# EAGLE library part VS1010-68 (library vlsi-web-e7)
VS1010 QFN68
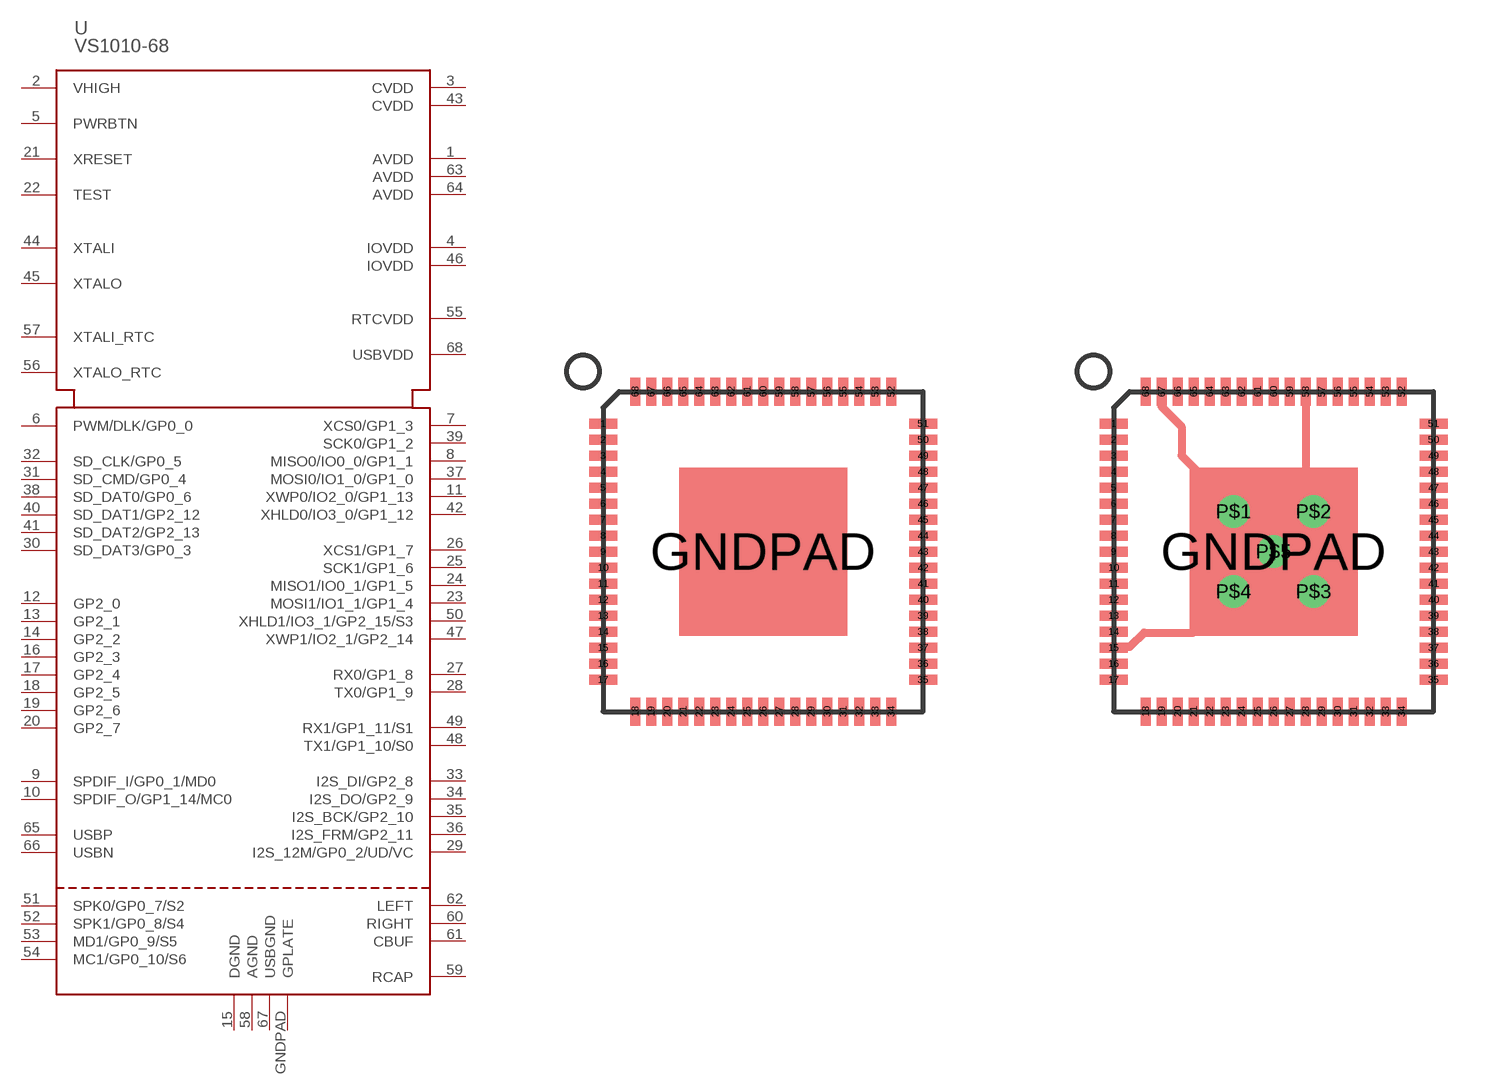
[diagram p14: symbol with the pads of QFN68P; footprints QFN68P, QFN68]

Designator prefix U

## VS1010-68QP  [QFN68P]
1  AVDD  sup
2  VHIGH
3  CVDD  sup
4  IOVDD  sup
5  PWRBTN  in
6  PWM/DLK/GP0_0
7  XCS0/GP1_3
8  MISO0/IO0_0/GP1_1
9  SPDIF_I/GP0_1/MD0
10  SPDIF_O/GP1_14/MC0
11  XWP0/IO2_0/GP1_13
12  GP2_0
13  GP2_1
14  GP2_2
15  DGND  sup
16  GP2_3
17  GP2_4
18  GP2_5
19  GP2_6
20  GP2_7
21  XRESET  in
22  TEST  in
23  MOSI1/IO1_1/GP1_4
24  MISO1/IO0_1/GP1_5
25  SCK1/GP1_6
26  XCS1/GP1_7
27  RX0/GP1_8
28  TX0/GP1_9
29  I2S_12M/GP0_2/UD/VC
30  SD_DAT3/GP0_3
31  SD_CMD/GP0_4
32  SD_CLK/GP0_5
33  I2S_DI/GP2_8
34  I2S_DO/GP2_9
35  I2S_BCK/GP2_10
36  I2S_FRM/GP2_11
37  MOSI0/IO1_0/GP1_0
38  SD_DAT0/GP0_6
39  SCK0/GP1_2
40  SD_DAT1/GP2_12
41  SD_DAT2/GP2_13
42  XHLD0/IO3_0/GP1_12
43  CVDD  sup
44  XTALI  pas
45  XTALO  pas
46  IOVDD  sup
47  XWP1/IO2_1/GP2_14
48  TX1/GP1_10/S0
49  RX1/GP1_11/S1
50  XHLD1/IO3_1/GP2_15/S3
51  SPK0/GP0_7/S2
52  SPK1/GP0_8/S4
53  MD1/GP0_9/S5
54  MC1/GP0_10/S6
55  RTCVDD  sup
56  XTALO_RTC  pas
57  XTALI_RTC  pas
58  AGND  sup
59  RCAP  pas
60  RIGHT  pas
61  CBUF  pas
62  LEFT  pas
63  AVDD  sup
64  AVDD  sup
65  USBP
66  USBN
67  USBGND  sup
68  USBVDD  sup
GNDPAD  GPLATE  sup

## VS1010-68Q  [QFN68]
1  AVDD  sup
2  VHIGH
3  CVDD  sup
4  IOVDD  sup
5  PWRBTN  in
6  PWM/DLK/GP0_0
7  XCS0/GP1_3
8  MISO0/IO0_0/GP1_1
9  SPDIF_I/GP0_1/MD0
10  SPDIF_O/GP1_14/MC0
11  XWP0/IO2_0/GP1_13
12  GP2_0
13  GP2_1
14  GP2_2
15  DGND  sup
16  GP2_3
17  GP2_4
18  GP2_5
19  GP2_6
20  GP2_7
21  XRESET  in
22  TEST  in
23  MOSI1/IO1_1/GP1_4
24  MISO1/IO0_1/GP1_5
25  SCK1/GP1_6
26  XCS1/GP1_7
27  RX0/GP1_8
28  TX0/GP1_9
29  I2S_12M/GP0_2/UD/VC
30  SD_DAT3/GP0_3
31  SD_CMD/GP0_4
32  SD_CLK/GP0_5
33  I2S_DI/GP2_8
34  I2S_DO/GP2_9
35  I2S_BCK/GP2_10
36  I2S_FRM/GP2_11
37  MOSI0/IO1_0/GP1_0
38  SD_DAT0/GP0_6
39  SCK0/GP1_2
40  SD_DAT1/GP2_12
41  SD_DAT2/GP2_13
42  XHLD0/IO3_0/GP1_12
43  CVDD  sup
44  XTALI  pas
45  XTALO  pas
46  IOVDD  sup
47  XWP1/IO2_1/GP2_14
48  TX1/GP1_10/S0
49  RX1/GP1_11/S1
50  XHLD1/IO3_1/GP2_15/S3
51  SPK0/GP0_7/S2
52  SPK1/GP0_8/S4
53  MD1/GP0_9/S5
54  MC1/GP0_10/S6
55  RTCVDD  sup
56  XTALO_RTC  pas
57  XTALI_RTC  pas
58  AGND  sup
59  RCAP  pas
60  RIGHT  pas
61  CBUF  pas
62  LEFT  pas
63  AVDD  sup
64  AVDD  sup
65  USBP
66  USBN
67  USBGND  sup
68  USBVDD  sup
GNDPAD  GPLATE  sup
P$1  GPLATE  sup
P$2  GPLATE  sup
P$3  GPLATE  sup
P$4  GPLATE  sup
P$5  GPLATE  sup

## Footprint QFN68P (pad centres in mm)
VS1010 PLAIN QFN68 Please remember to connect the ground pad and pins. See layer Document for the location of exposed pads under the package.
smd 0.7 x 0.25: 1 -4,3.2; 2 -4,2.8; 3 -4,2.4; 4 -4,2; 5 -4,1.6; 6 -4,1.2; 7 -4,0.8; 8 -4,0.4; 9 -4,0; 10 -4,-0.4; 11 -4,-0.8; 12 -4,-1.2; 13 -4,-1.6; 14 -4,-2; 15 -4,-2.4; 16 -4,-2.8; 17 -4,-3.2; 35 4,-3.2; 36 4,-2.8; 37 4,-2.4; 38 4,-2; 39 4,-1.6; 40 4,-1.2; 41 4,-0.8; 42 4,-0.4; 43 4,0; 44 4,0.4; 45 4,0.8; 46 4,1.2; 47 4,1.6; 48 4,2; 49 4,2.4; 50 4,2.8; 51 4,3.2
smd 0.25 x 0.7: 18 -3.2,-4; 19 -2.8,-4; 20 -2.4,-4; 21 -2,-4; 22 -1.6,-4; 23 -1.2,-4; 24 -0.8,-4; 25 -0.4,-4; 26 0,-4; 27 0.4,-4; 28 0.8,-4; 29 1.2,-4; 30 1.6,-4; 31 2,-4; 32 2.4,-4; 33 2.8,-4; 34 3.2,-4; 52 3.2,4; 53 2.8,4; 54 2.4,4; 55 2,4; 56 1.6,4; 57 1.2,4; 58 0.8,4; 59 0.4,4; 60 0,4; 61 -0.4,4; 62 -0.8,4; 63 -1.2,4; 64 -1.6,4; 65 -2,4; 66 -2.4,4; 67 -2.8,4; 68 -3.2,4
smd 4.2 x 4.2: GNDPAD 0,0

## Footprint QFN68 (pad centres in mm)
VS1010 QFN68 Recommended ground wiring included. Please see layer Document for the location of exposed pads under the package. Notice! DRC check will always generate at least 8 overlap errors from the ground pad wiring, they should be ignored. Errors are caused by the limitations of complex package definitions in Eagle.
smd 0.7 x 0.25: 1 -4,3.2; 2 -4,2.8; 3 -4,2.4; 4 -4,2; 5 -4,1.6; 6 -4,1.2; 7 -4,0.8; 8 -4,0.4; 9 -4,0; 10 -4,-0.4; 11 -4,-0.8; 12 -4,-1.2; 13 -4,-1.6; 14 -4,-2; 15 -4,-2.4; 16 -4,-2.8; 17 -4,-3.2; 35 4,-3.2; 36 4,-2.8; 37 4,-2.4; 38 4,-2; 39 4,-1.6; 40 4,-1.2; 41 4,-0.8; 42 4,-0.4; 43 4,0; 44 4,0.4; 45 4,0.8; 46 4,1.2; 47 4,1.6; 48 4,2; 49 4,2.4; 50 4,2.8; 51 4,3.2
smd 0.25 x 0.7: 18 -3.2,-4; 19 -2.8,-4; 20 -2.4,-4; 21 -2,-4; 22 -1.6,-4; 23 -1.2,-4; 24 -0.8,-4; 25 -0.4,-4; 26 0,-4; 27 0.4,-4; 28 0.8,-4; 29 1.2,-4; 30 1.6,-4; 31 2,-4; 32 2.4,-4; 33 2.8,-4; 34 3.2,-4; 52 3.2,4; 53 2.8,4; 54 2.4,4; 55 2,4; 56 1.6,4; 57 1.2,4; 58 0.8,4; 59 0.4,4; 60 0,4; 61 -0.4,4; 62 -0.8,4; 63 -1.2,4; 64 -1.6,4; 65 -2,4; 66 -2.4,4; 67 -2.8,4; 68 -3.2,4
smd 4.2 x 4.2: GNDPAD 0,0
drill 0.3: P$1 -1,1; P$2 1,1; P$3 1,-1; P$4 -1,-1; P$5 0,0